# Altium footprint library CC3501_Misc_Footprints.PcbLib: 8 footprints
Each footprint in its own frame and in the unit in brackets; x right, y up, seen from the top. Pads: shape width x height; smd on the part's side, far side on the other; paste and mask are expansions set on the pad; w line width, h text height; cw(c..) or ccw(c..) is an arc to the next point about the centre after c.
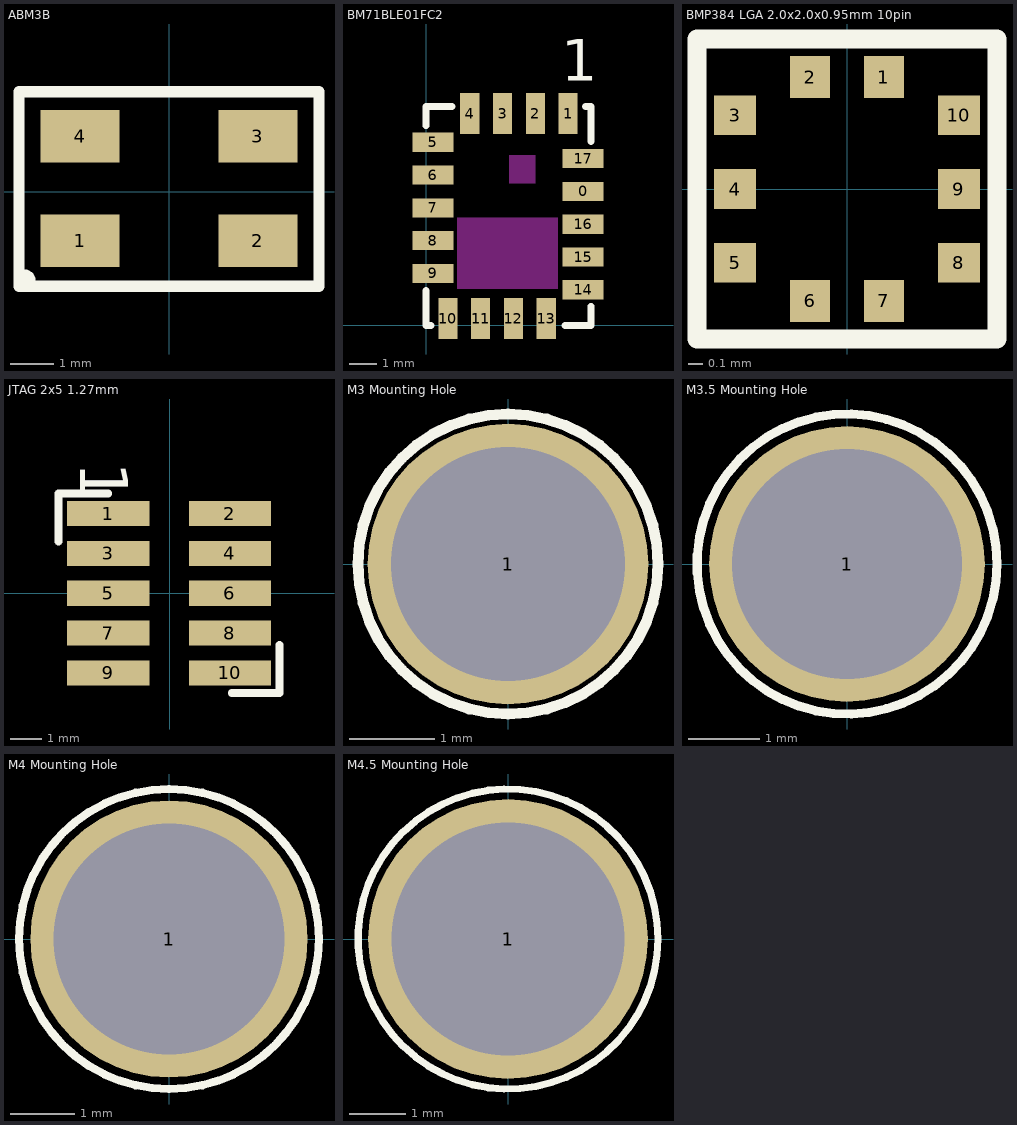
[diagram p0: the footprints below, top view; thin cyan lines are the x and y axes]

## ABM3B [mil]
pads (4):
  rect 71x47 smd: 1(-80,-44) 2(80,-44) 3(80,50) 4(-80,50)
Top Overlay:
  circle w10: c-130,-80 r5
  lines w10: -135,-85 -135,90 30.5,90 135,90 135,-85 -135,-85
3D body: height 43.31, standoff 0, extent -110,-72.5 120,72.5

## BM71BLE01FC2 [mm] "Microchip BM71BLE01FC2 Bluetooth Low Energy (BLE) Module"
pads (18):
  rect 1.5x0.7 smd: 0(5.75,4.9) 5(0.25,6.7) 6(0.25,5.5) 7(0.25,4.3) 8(0.25,3.1) 9(0.25,1.9) 14(5.75,1.3) 15(5.75,2.5) 16(5.75,3.7) 17(5.75,6.1)
  rect 0.7x1.5 smd: 1(5.2,7.75) 2(4,7.75) 3(2.8,7.75) 4(1.6,7.75) 10(0.8,0.25) 11(2,0.25) 12(3.2,0.25) 13(4.4,0.25)
Top Layer keep-out:
  region: 1.143,1.333 4.826,1.333 4.826,3.937 1.143,3.937
  region: 3.048,5.207 4,5.207 4,6.223 3.048,6.223
Top Overlay:
  lines w0.254: 0,1.27 0,0 0.191,0 ; 0,7.302 0,8.001 0.953,8.001 ; 5.08,0 6.032,0 6.032,0.699 ; 5.842,8.001 6.032,8.001 6.032,6.731
  text "1" at 4.953,8.954 h1.52

## BMP384 LGA 2.0x2.0x0.95mm 10pin [mm] "Bosch BMP384 Barometric Pressure Sensor, 10pin, SMT"
height 0.95
pads (10):
  rect 0.27x0.285 smd: 1(0.25,0.757) 2(-0.25,0.757) 6(-0.25,-0.757) 7(0.25,-0.757)
  rect 0.285x0.27 smd: 3(-0.757,0.5) 4(-0.757,0) 5(-0.757,-0.5) 8(0.757,-0.5) 9(0.757,0) 10(0.757,0.5)
Top Overlay:
  lines w0.127: -1.016,-1.016 -1.016,1.016 1.016,1.016 1.016,-1.016 -1.016,-1.016
3D body: height 0.95, standoff 0, extent -1.016,-1.016 1.016,1.016

## JTAG 2x5 1.27mm [mm]
pads (10):
  rect 2.62x0.8 smd: 1(-1.968,2.54) 2(1.911,2.54) 3(-1.968,1.27) 4(1.911,1.27) 5(-1.968,0) 6(1.911,0) 7(-1.968,-1.27) 8(1.911,-1.27) 9(-1.968,-2.54) 10(1.911,-2.54)
Top Overlay:
  lines w0.254: -3.556,1.651 -3.556,3.175 -1.968,3.175 ; 1.968,-3.175 3.492,-3.175 3.492,-1.651
  text "1" at -2.857,4.191 h1.52
3D body: height 4.68, standoff 0, extent -0.699,-2.921 0.572,2.921
3D body: height 1.1, standoff 0, extent -1.968,-2.921 1.905,2.921

## M3 Mounting Hole [mm] "ID 2.73mm"
pads (1):
  round 3.276 hole 2.73: 1(0,0)
Top Overlay:
  circle w0.127: c0,0 r1.75

## M3.5 Mounting Hole [mm] "ID 3.23mm"
pads (1):
  round 3.876 hole 3.23: 1(0,0)
Top Overlay:
  circle w0.127: c0,0 r2.11

## M4 Mounting Hole [mm] "ID 3.62mm"
pads (1):
  round 4.344 hole 3.62: 1(0,0)
Top Overlay:
  circle w0.127: c0,0 r2.35

## M4.5 Mounting Hole [mm] "ID 4.12mm"
pads (1):
  round 4.944 hole 4.12: 1(0,0)
Top Overlay:
  circle w0.127: c0,0 r2.65